# Altium footprint library TO-218.PcbLib: 1 footprints
Each footprint in its own frame and in the unit in brackets; x right, y up, seen from the top. Pads: shape width x height; smd on the part's side, far side on the other; paste and mask are expansions set on the pad; w line width, h text height; cw(c..) or ccw(c..) is an arc to the next point about the centre after c.
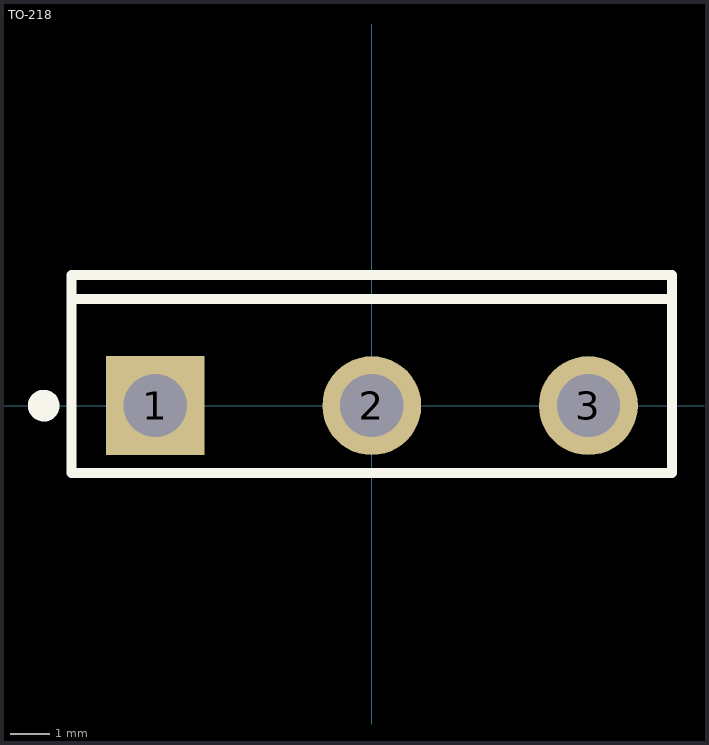
[diagram p0: the footprint, top view; thin cyan lines are the x and y axes]

## TO-218 [mm]
pads (3):
  rect 2.5x2.5 hole 1.6: 1(-5.48,0)
  round 2.5 hole 1.6: 2(0,0) 3(5.48,0)
Top Overlay:
  circle w0.4: c-8.3,0 r0.2
  lines w0.254: -7.6,2.7 7.6,2.7 ; -7.6,-1.7 7.6,-1.7 7.6,3.3 -7.6,3.3 -7.6,-1.7